# EAGLE library part CP2615-A01-GM (library Sparky)
USB To I2s Digital Audio Bridge Controller
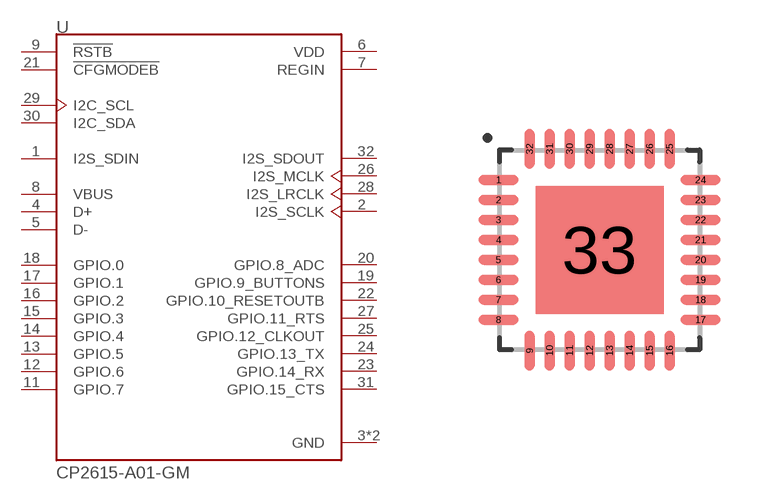
[diagram p14: symbol with the pads of QFN-32-5X5; footprint QFN-32-5X5]

Designator prefix U

## CP2615-A01-GMQFN-32 (AVAILABILITY: Warning; DESCRIPTION: Usb To I2s Digital Audio Bridge Controller; MF: Silicon Labs; MP: CP2615-A01-GM; PACKAGE: QFN-32 Silicon Labs; PRICE: 3.92 USD)  [QFN-32-5X5]
1  I2S_SDIN  in
2  I2S_SCLK  out
3  GND  pwr
4  D+
5  D-
6  VDD  pwr
7  REGIN  pwr
8  VBUS  in
9  !RSTB
11  GPIO.7
12  GPIO.6
13  GPIO.5
14  GPIO.4
15  GPIO.3
16  GPIO.2
17  GPIO.1
18  GPIO.0
19  GPIO.9_BUTTONS
20  GPIO.8_ADC
21  !CFGMODEB  in
22  GPIO.10_RESETOUTB
23  GPIO.14_RX
24  GPIO.13_TX
25  GPIO.12_CLKOUT
26  I2S_MCLK  out
27  GPIO.11_RTS
28  I2S_LRCLK  out
29  I2C_SCL
30  I2C_SDA
31  GPIO.15_CTS
32  I2S_SDOUT  out
33  GND  pwr

## Footprint QFN-32-5X5 (pad centres in mm)
smd 1 x 0.25: 1 -2.525,1.75; 2 -2.525,1.25; 3 -2.525,0.75; 4 -2.525,0.25; 5 -2.525,-0.25; 6 -2.525,-0.75; 7 -2.525,-1.25; 8 -2.525,-1.75; 17 2.525,-1.75; 18 2.525,-1.25; 19 2.525,-0.75; 20 2.525,-0.25; 21 2.525,0.25; 22 2.525,0.75; 23 2.525,1.25; 24 2.525,1.75
smd 0.25 x 1: 9 -1.75,-2.525; 10 -1.25,-2.525; 11 -0.75,-2.525; 12 -0.25,-2.525; 13 0.25,-2.525; 14 0.75,-2.525; 15 1.25,-2.525; 16 1.75,-2.525; 25 1.75,2.525; 26 1.25,2.525; 27 0.75,2.525; 28 0.25,2.525; 29 -0.25,2.525; 30 -0.75,2.525; 31 -1.25,2.525; 32 -1.75,2.525
smd 3.2 x 3.2: 33 0,0